# EAGLE library part TI_ADCXX1S101 (library senseye)
Texas Instruments ADCXX1S101 (ADC081S101, ADC101S101, ADC121S101) Single Channel, 0.5 to 1.0 Msps, 8-bit, 10-bit and 12-bit A/D Converters
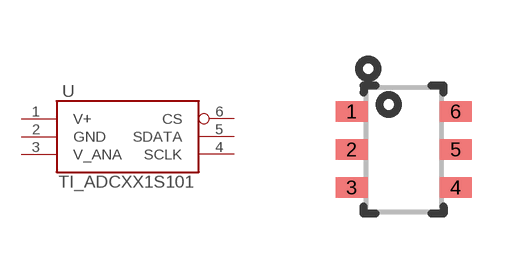
[diagram p5: symbol with the pads of SOT23-6; footprint SOT23-6]

Designator prefix U

## TI_ADCXX1S101  [SOT23-6]
1  V+
2  GND
3  V_ANA
4  SCLK
5  SDATA
6  CS

## Footprint SOT23-6 (pad centres in mm)
smd 0.8 x 0.51: 1 -1.3,0.95; 2 -1.3,0; 3 -1.3,-0.95; 4 1.3,-0.95; 5 1.3,0; 6 1.3,0.95